# EAGLE library part XC6SLX9-TQ144 (library ic-Xilinx)
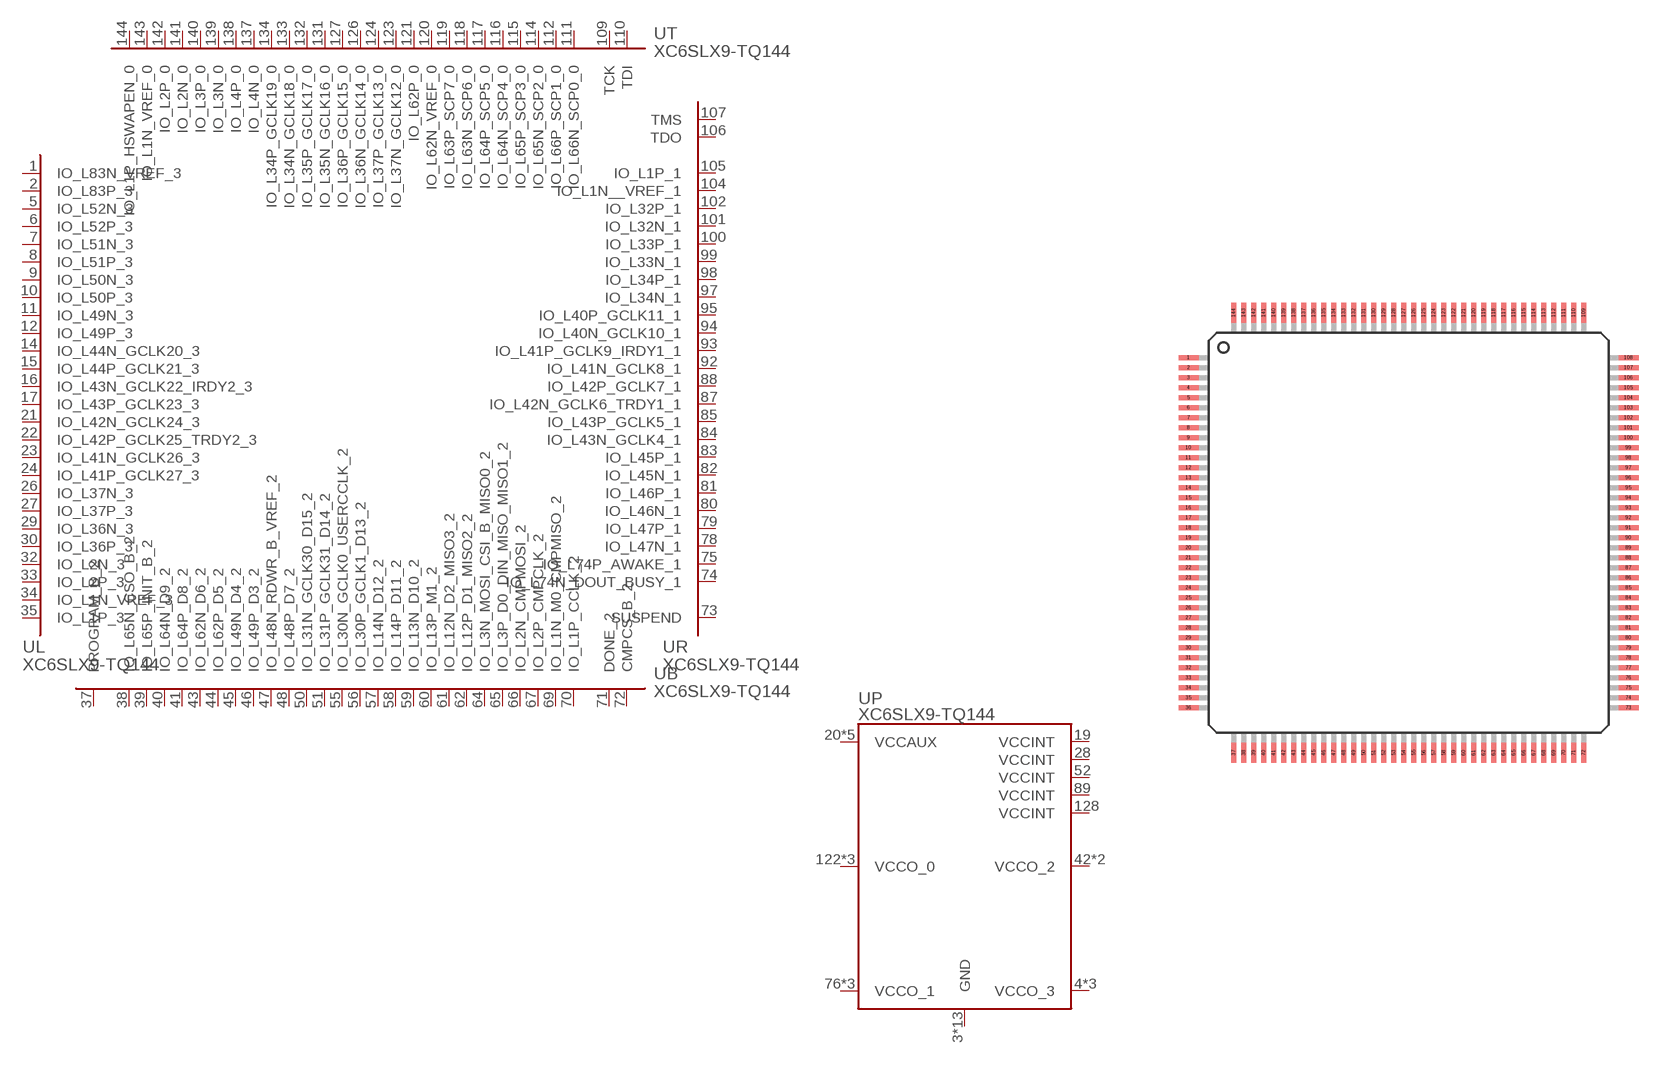
[diagram p0: symbol with the pads of QFP144-0.5; footprint QFP144-0.5]

Designator prefix U; gates L=XC6SLX-TQ144_LEFT B=XC6SLX-TQ144_BOTTOM R=XC6SLX-TQ144_RIGHT T=XC6SLX-TQ144_TOP P=XC6SLX-TQ144_POWER

## XC6SLX9-TQ144  [QFP144-0.5]
1  L:IO_L83N_VREF_3
2  L:IO_L83P_3
3  P:GND
4  P:VCCO_3
5  L:IO_L52N_3
6  L:IO_L52P_3
7  L:IO_L51N_3
8  L:IO_L51P_3
9  L:IO_L50N_3
10  L:IO_L50P_3
11  L:IO_L49N_3
12  L:IO_L49P_3
13  P:GND
14  L:IO_L44N_GCLK20_3
15  L:IO_L44P_GCLK21_3
16  L:IO_L43N_GCLK22_IRDY2_3
17  L:IO_L43P_GCLK23_3
18  P:VCCO_3
19  P:VCCINT
20  P:VCCAUX
21  L:IO_L42N_GCLK24_3
22  L:IO_L42P_GCLK25_TRDY2_3
23  L:IO_L41N_GCLK26_3
24  L:IO_L41P_GCLK27_3
25  P:GND
26  L:IO_L37N_3
27  L:IO_L37P_3
28  P:VCCINT
29  L:IO_L36N_3
30  L:IO_L36P_3
31  P:VCCO_3
32  L:IO_L2N_3
33  L:IO_L2P_3
34  L:IO_L1N_VREF_3
35  L:IO_L1P_3
36  P:VCCAUX
37  B:PROGRAM_B_2
38  B:IO_L65N_CSO_B_2
39  B:IO_L65P_INIT_B_2
40  B:IO_L64N_D9_2
41  B:IO_L64P_D8_2
42  P:VCCO_2
43  B:IO_L62N_D6_2
44  B:IO_L62P_D5_2
45  B:IO_L49N_D4_2
46  B:IO_L49P_D3_2
47  B:IO_L48N_RDWR_B_VREF_2
48  B:IO_L48P_D7_2
49  P:GND
50  B:IO_L31N_GCLK30_D15_2
51  B:IO_L31P_GCLK31_D14_2
52  P:VCCINT
53  P:VCCAUX
54  P:GND
55  B:IO_L30N_GCLK0_USERCCLK_2
56  B:IO_L30P_GCLK1_D13_2
57  B:IO_L14N_D12_2
58  B:IO_L14P_D11_2
59  B:IO_L13N_D10_2
60  B:IO_L13P_M1_2
61  B:IO_L12N_D2_MISO3_2
62  B:IO_L12P_D1_MISO2_2
63  P:VCCO_2
64  B:IO_L3N_MOSI_CSI_B_MISO0_2
65  B:IO_L3P_D0_DIN_MISO_MISO1_2
66  B:IO_L2N_CMPMOSI_2
67  B:IO_L2P_CMPCLK_2
68  P:GND
69  B:IO_L1N_M0_CMPMISO_2
70  B:IO_L1P_CCLK_2
71  B:DONE_2
72  B:CMPCS_B_2
73  R:SUSPEND
74  R:IO_L74N_DOUT_BUSY_1
75  R:IO_L74P_AWAKE_1
76  P:VCCO_1
77  P:GND
78  R:IO_L47N_1
79  R:IO_L47P_1
80  R:IO_L46N_1
81  R:IO_L46P_1
82  R:IO_L45N_1
83  R:IO_L45P_1
84  R:IO_L43N_GCLK4_1
85  R:IO_L43P_GCLK5_1
86  P:VCCO_1
87  R:IO_L42N_GCLK6_TRDY1_1
88  R:IO_L42P_GCLK7_1
89  P:VCCINT
90  P:VCCAUX
91  P:GND
92  R:IO_L41N_GCLK8_1
93  R:IO_L41P_GCLK9_IRDY1_1
94  R:IO_L40N_GCLK10_1
95  R:IO_L40P_GCLK11_1
96  P:GND
97  R:IO_L34N_1
98  R:IO_L34P_1
99  R:IO_L33N_1
100  R:IO_L33P_1
101  R:IO_L32N_1
102  R:IO_L32P_1
103  P:VCCO_1
104  R:IO_L1N__VREF_1
105  R:IO_L1P_1
106  R:TDO
107  R:TMS
108  P:GND
109  T:TCK
110  T:TDI
111  T:IO_L66N_SCP0_0
112  T:IO_L66P_SCP1_0
113  P:GND
114  T:IO_L65N_SCP2_0
115  T:IO_L65P_SCP3_0
116  T:IO_L64N_SCP4_0
117  T:IO_L64P_SCP5_0
118  T:IO_L63N_SCP6_0
119  T:IO_L63P_SCP7_0
120  T:IO_L62N_VREF_0
121  T:IO_L62P_0
122  P:VCCO_0
123  T:IO_L37N_GCLK12_0
124  T:IO_L37P_GCLK13_0
125  P:VCCO_0
126  T:IO_L36N_GCLK14_0
127  T:IO_L36P_GCLK15_0
128  P:VCCINT
129  P:VCCAUX
130  P:GND
131  T:IO_L35N_GCLK16_0
132  T:IO_L35P_GCLK17_0
133  T:IO_L34N_GCLK18_0
134  T:IO_L34P_GCLK19_0
135  P:VCCO_0
136  P:GND
137  T:IO_L4N_0
138  T:IO_L4P_0
139  T:IO_L3N_0
140  T:IO_L3P_0
141  T:IO_L2N_0
142  T:IO_L2P_0
143  T:IO_L1N_VREF_0
144  T:IO_L1P_HSWAPEN_0

## Footprint QFP144-0.5 (pad centres in mm)
smd 1 x 0.25: 1 -11,8.75; 2 -11,8.25; 3 -11,7.75; 4 -11,7.25; 5 -11,6.75; 6 -11,6.25; 7 -11,5.75; 8 -11,5.25; 9 -11,4.75; 10 -11,4.25; 11 -11,3.75; 12 -11,3.25; 13 -11,2.75; 14 -11,2.25; 15 -11,1.75; 16 -11,1.25; 17 -11,0.75; 18 -11,0.25; 19 -11,-0.25; 20 -11,-0.75; 21 -11,-1.25; 22 -11,-1.75; 23 -11,-2.25; 24 -11,-2.75; 25 -11,-3.25; 26 -11,-3.75; 27 -11,-4.25; 28 -11,-4.75; 29 -11,-5.25; 30 -11,-5.75; 31 -11,-6.25; 32 -11,-6.75; 33 -11,-7.25; 34 -11,-7.75; 35 -11,-8.25; 36 -11,-8.75; 73 11,-8.75; 74 11,-8.25; 75 11,-7.75; 76 11,-7.25; 77 11,-6.75; 78 11,-6.25; 79 11,-5.75; 80 11,-5.25; 81 11,-4.75; 82 11,-4.25; 83 11,-3.75; 84 11,-3.25; 85 11,-2.75; 86 11,-2.25; 87 11,-1.75; 88 11,-1.25; 89 11,-0.75; 90 11,-0.25; 91 11,0.25; 92 11,0.75; 93 11,1.25; 94 11,1.75; 95 11,2.25; 96 11,2.75; 97 11,3.25; 98 11,3.75; 99 11,4.25; 100 11,4.75; 101 11,5.25; 102 11,5.75; 103 11,6.25; 104 11,6.75; 105 11,7.25; 106 11,7.75; 107 11,8.25; 108 11,8.75
smd 0.25 x 1: 37 -8.75,-11; 38 -8.25,-11; 39 -7.75,-11; 40 -7.25,-11; 41 -6.75,-11; 42 -6.25,-11; 43 -5.75,-11; 44 -5.25,-11; 45 -4.75,-11; 46 -4.25,-11; 47 -3.75,-11; 48 -3.25,-11; 49 -2.75,-11; 50 -2.25,-11; 51 -1.75,-11; 52 -1.25,-11; 53 -0.75,-11; 54 -0.25,-11; 55 0.25,-11; 56 0.75,-11; 57 1.25,-11; 58 1.75,-11; 59 2.25,-11; 60 2.75,-11; 61 3.25,-11; 62 3.75,-11; 63 4.25,-11; 64 4.75,-11; 65 5.25,-11; 66 5.75,-11; 67 6.25,-11; 68 6.75,-11; 69 7.25,-11; 70 7.75,-11; 71 8.25,-11; 72 8.75,-11; 109 8.75,11; 110 8.25,11; 111 7.75,11; 112 7.25,11; 113 6.75,11; 114 6.25,11; 115 5.75,11; 116 5.25,11; 117 4.75,11; 118 4.25,11; 119 3.75,11; 120 3.25,11; 121 2.75,11; 122 2.25,11; 123 1.75,11; 124 1.25,11; 125 0.75,11; 126 0.25,11; 127 -0.25,11; 128 -0.75,11; 129 -1.25,11; 130 -1.75,11; 131 -2.25,11; 132 -2.75,11; 133 -3.25,11; 134 -3.75,11; 135 -4.25,11; 136 -4.75,11; 137 -5.25,11; 138 -5.75,11; 139 -6.25,11; 140 -6.75,11; 141 -7.25,11; 142 -7.75,11; 143 -8.25,11; 144 -8.75,11